# EAGLE library part DPNO-101-2-A-G (library relay-pickering)
Seperate contacts DPST Relay TTL SIL Pickering 101-2-A series 74HC drive (6 of 7 pin SIL)
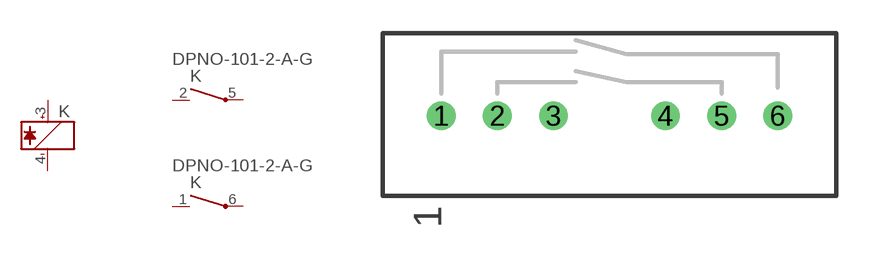
[diagram p1: symbol with the pads of 1012A; footprint 1012A]

Designator prefix K; gates G$1=SPNO-CONTACT G$2=SPNO-CONTACT G$3=RELAY-COIL

## DPNO-101-2-A-G  [1012A]
1  G$2:NO  pas
2  G$1:NO  pas
3  G$3:+  pas
4  G$3:-  pas
5  G$1:C  pas
6  G$2:C  pas

## Footprint 1012A (pad centres in mm)
DPST Relay TTL SIL Pickering 101-2-A series 74HC drive (6 of 7 pin SIL)
drill 0.8 pad 1.3 round: 1 -7.62,0; 2 -5.08,0; 3 -2.54,0; 4 2.54,0; 5 5.08,0; 6 7.62,0